# Altium integrated library 7-215079-8.IntLib: 1 symbol
Pins are listed as number, name and electrical type; pins without a type are passive.

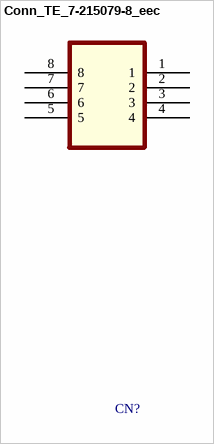
[diagram p0: symbol Conn_TE_7-215079-8_eec]

## Conn_TE_7-215079-8_eec
designator CN?, comment SPI_connector  (value not drawn)
CONN FMALE-ON-BRD 8POS VERT T/H; Buying URL:: https://uk.farnell.com/amp-te-connectivity/7-215079-8/receptacle-idc-1-27mm-8way/dp/148593
footprint TE_7-215079-8_0
pins: 1, 2, 3, 4, 5, 6, 7, 8